# EAGLE library part DRV8835DSSR (library DRV8835DSSR)
None
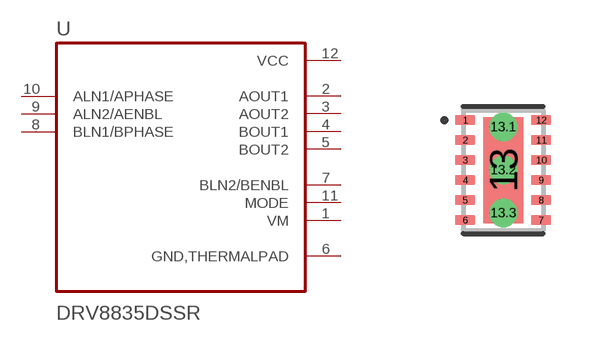
[diagram p0: symbol with the pads of VREG_LM27762DSSR; footprint VREG_LM27762DSSR]

Designator prefix U

## DRV8835DSSR (Availability: Good; Description: 1.5A Low Voltage Stepper or Single/Dual Brushed DC Motor Driver w/ Dual Supplies _PWM or PH/EN Ctrl_ 12-WSON -40 to 85; MF: Texas Instruments; MP: DRV8835DSSR; Package: WSON-12 Texas Instruments; Price: 1.38 USD)  [VREG_LM27762DSSR]
1  VM
2  AOUT1  out
3  AOUT2  out
4  BOUT1  out
5  BOUT2  out
6  GND,THERMALPAD  pwr
7  BLN2/BENBL
8  BLN1/BPHASE
9  ALN2/AENBL
10  ALN1/APHASE
11  MODE
12  VCC  pwr

## Footprint VREG_LM27762DSSR (pad centres in mm)
smd 0.5 x 0.25: 1 -0.95,1.25; 2 -0.95,0.75; 3 -0.95,0.25; 4 -0.95,-0.25; 5 -0.95,-0.75; 6 -0.95,-1.25; 7 0.95,-1.25; 8 0.95,-0.75; 9 0.95,-0.25; 10 0.95,0.25; 11 0.95,0.75; 12 0.95,1.25
smd 1 x 2.65: 13 0,0
drill 0.2 pad 0.35: 13.1 0,1.075; 13.2 0,0; 13.3 0,-1.075